# Altium schematic symbol library TCA6408ARGTR.Schlib: 1 symbol
Pins are listed as number, name and electrical type; pins without a type are passive.

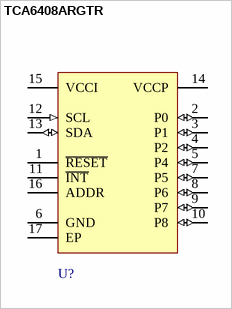
[diagram p0: symbol TCA6408ARGTR]

## TCA6408ARGTR
designator U?
8-bit I2C-bus and SMBus I/O port
pins: 1 ~{RESET}, 2 P0 (io), 3 P1 (io), 4 P2 (io), 5 P4 (io), 6 GND (power), 7 P5 (io), 8 P6 (io), 9 P7 (io), 10 P8 (io), 11 ~{INT}, 12 SCL (in), 13 SDA (io), 14 VCCP (power), 15 VCCI (power), 16 ADDR, 17 EP (power)